# EAGLE library part ATTINY20 (library myparts)
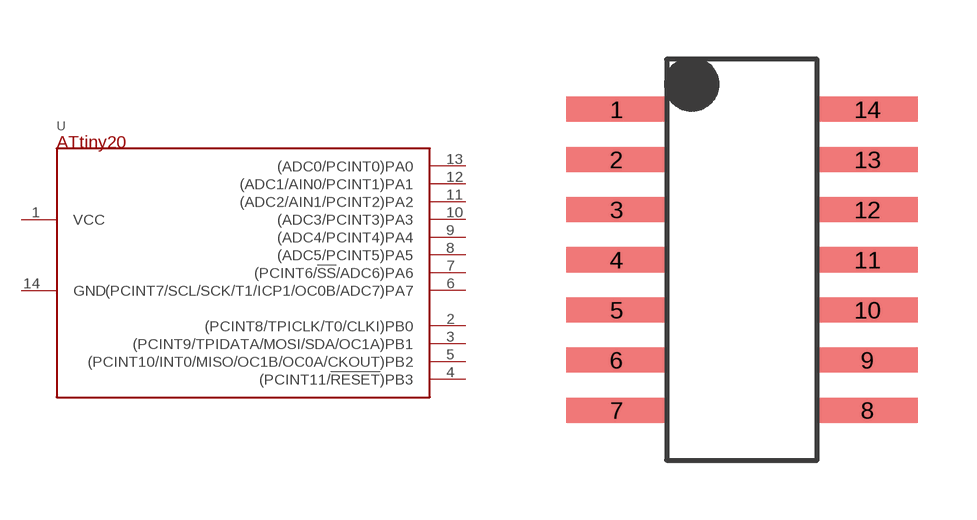
[diagram p25: symbol with the pads of SOIC14; footprint SOIC14]

Designator prefix -

## ATTINY20 (SSU: -SSU)  [SOIC14]
1  VCC
2  (PCINT8/TPICLK/T0/CLKI)PB0
3  (PCINT9/TPIDATA/MOSI/SDA/OC1A)PB1
4  (PCINT11/!RESET!)PB3
5  (PCINT10/INT0/MISO/OC1B/OC0A/CKOUT)PB2
6  (PCINT7/SCL/SCK/T1/ICP1/OC0B/ADC7)PA7
7  (PCINT6/!SS!/ADC6)PA6
8  (ADC5/PCINT5)PA5
9  (ADC4/PCINT4)PA4
10  (ADC3/PCINT3)PA3
11  (ADC2/AIN1/PCINT2)PA2
12  (ADC1/AIN0/PCINT1)PA1
13  (ADC0/PCINT0)PA0
14  GND

## Footprint SOIC14 (pad centres in mm)
smd 2.54 x 0.635: 1 -2.54,3.81; 2 -2.54,2.54; 3 -2.54,1.27; 4 -2.54,0; 5 -2.54,-1.27; 6 -2.54,-2.54; 7 -2.54,-3.81; 8 3.81,-3.81; 9 3.81,-2.54; 10 3.81,-1.27; 11 3.81,0; 12 3.81,1.27; 13 3.81,2.54; 14 3.81,3.81